# Altium footprint library chip_0805_FE.PcbLib: 1 footprints
Each footprint in its own frame and in the unit in brackets; x right, y up, seen from the top. Pads: shape width x height; smd on the part's side, far side on the other; paste and mask are expansions set on the pad; w line width, h text height; cw(c..) or ccw(c..) is an arc to the next point about the centre after c.
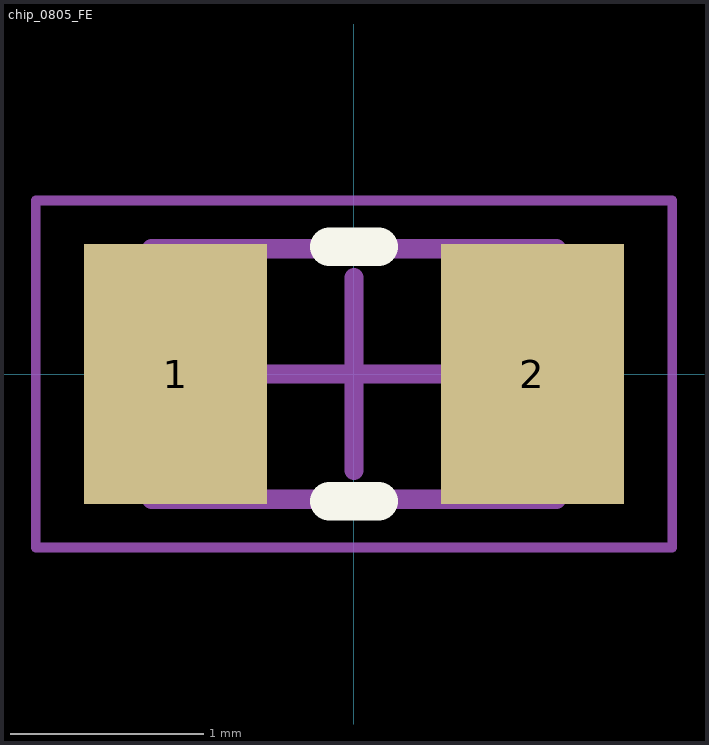
[diagram p0: the footprint, top view; thin cyan lines are the x and y axes]

## chip_0805_FE [mm] "0805 Ferrite Bead"
height 0.6
pads (2):
  rect 0.95x1.35 smd: 1(-0.925,0) 2(0.925,0)
Top Overlay:
  lines w0.2: -0.127,-0.66 0.127,-0.66 ; -0.127,0.66 0.127,0.66
Mechanical 13:
  lines w0.1: -1.05,-0.65 1.05,-0.65 1.05,0.65 -1.05,0.65 -1.05,-0.65
Mechanical 15:
  lines w0.05: -1.65,-0.9 1.65,-0.9 1.65,0.9 -1.65,0.9 -1.65,-0.9
  lines w0.1: -0.5,0 0.5,0 ; 0,-0.5 0,0.5
3D body: height 1.17, standoff 0, extent 0.6,-0.65 1.05,0.65
3D body: height 1.17, standoff 0, extent -1.05,-0.65 -0.6,0.65
3D body: height 1.15, standoff 0.03, extent -0.6,-0.65 0.6,0.65